# Altium schematic symbol library 0154010.DR.SchLib: 1 symbol
Pins are listed as number, name and electrical type; pins without a type are passive.

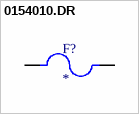
[diagram p0: symbol 0154010.DR]

## 0154010.DR
designator F?
FUSE BRD MNT 10A 125VAC/VDC SMD | Littelfuse 0154010.DR; MF: Littelfuse Inc.; SnapEDA_Link: https://www.snapeda.com/parts/0154010.DR/Littelfuse/view-part/?ref=snap; Package: SMD-2 Littelfuse; Value: *; MP: 0154010.DR; Check_prices: https://www.snapeda.com/parts/0154010.DR/Littelfuse/view-part/?ref=eda
footprint FUSE_0154010.DR
pins: 1, 2